# Altium schematic symbol library LDO.SchLib: 4 symbols
Pins are listed as number, name and electrical type; pins without a type are passive.

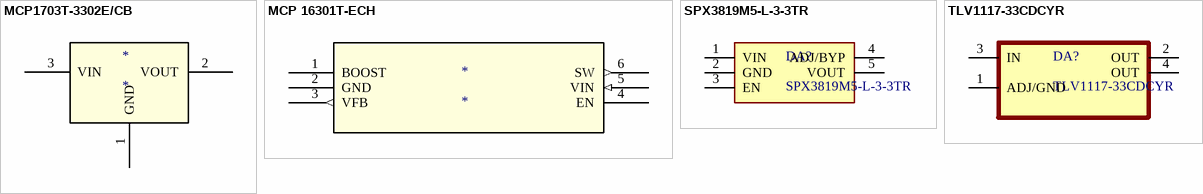
[diagram p0: symbols MCP1703T-3302E/CB to TLV1117-33CDCYR]

## MCP1703T-3302E/CB
designator *
footprint MCP1703T-3302E/CB
pins: 1 GND, 2 VOUT, 3 VIN

## MCP 16301T-ECH
designator *
footprint MCP 16301T-ECH
pins: 1 BOOST, 2 GND (power), 3 VFB (out), 4 EN, 5 VIN (in), 6 SW (out)

## SPX3819M5-L-3-3TR
designator DA?
footprint SOT95P280x145-5N
pins: 1 VIN, 2 GND, 3 EN, 4 ADJ/BYP, 5 VOUT

## TLV1117-33CDCYR
designator DA?
footprint SOT230P700x180-4N
pins: 1 ADJ/GND (power), 2 OUT (power), 3 IN (power), 4 OUT (power)